# EAGLE library part LT1961IMS8E#PBF (library oresat-samacsys_Parts)
Step-Up Switching Regulator Source: Datasheet <http://docs-europe.electrocomponents.com/webdocs/1412/0900766b81412881.pdf>
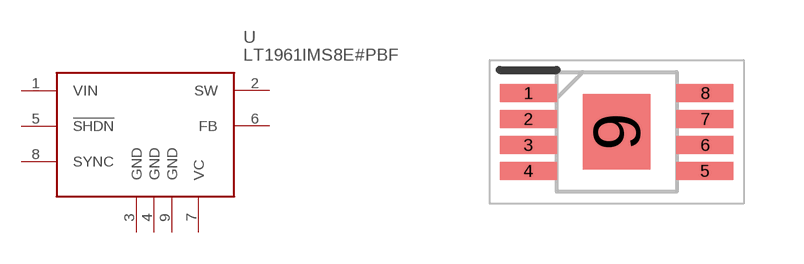
[diagram p2: symbol with the pads of SOP65P490X110-9N; footprint SOP65P490X110-9N]

Designator prefix U

## LT1961IMS8E#PBF (DESCRIPTION: Step-Up Switching Regulator; HEIGHT: 1.1mm; MANUFACTURER_NAME: Linear Technology; MPN: LT1961IMS8E#PBF; VALUE: LT1961IMS8E)  [SOP65P490X110-9N]
1  VIN  pwr
2  SW
3  GND  pwr
4  GND  pwr
5  !SHDN
6  FB
7  VC
8  SYNC
9  GND  pwr

## Footprint SOP65P490X110-9N (pad centres in mm)
MS8E(MSOP)
smd 1.425 x 0.45: 1 -2.212,0.975; 2 -2.212,0.325; 3 -2.212,-0.325; 4 -2.212,-0.975; 5 2.212,-0.975; 6 2.212,-0.325; 7 2.212,0.325; 8 2.212,0.975
smd 1.68 x 1.88: 9 0,0